# EAGLE library part AD8226 (library Eagle_CAD_parts)
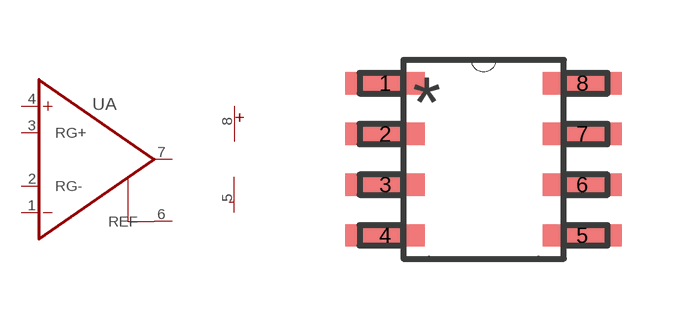
[diagram p77: symbol with the pads of 8SOIC; footprint 8SOIC]

Designator prefix U; gates A=OPAMP-INSTR G$2=ALIMENTACION

## AD8226ARZ-R7 (DIGIKEY_PART_NUMBER: AD8226ARZ-R7CT-ND; MANUFACTURER_PART_NUMBER: AD8226ARZ-R7; V_SUP: 2.2 V ~ 36V)  [8SOIC]
1  A:-IN  in
2  A:RG-
3  A:RG+
4  A:+IN  in
5  G$2:V-  pwr
6  A:REF
7  A:OUT  oc
8  G$2:V+  pwr

## Footprint 8SOIC (pad centres in mm)
smd 1.981 x 0.559: 1 -2.464,1.905; 2 -2.464,0.635; 3 -2.464,-0.635; 4 -2.464,-1.905; 5 2.464,-1.905; 6 2.464,-0.635; 7 2.464,0.635; 8 2.464,1.905